# Altium schematic symbol library Battery Protection.SchLib: 1 symbol
Pins are listed as number, name and electrical type; pins without a type are passive.

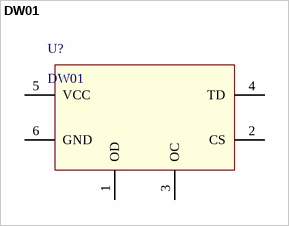
[diagram p0: symbol DW01]

## DW01
designator U?
Battery Protector
pins: 1 OD, 2 CS, 3 OC, 4 TD, 5 VCC, 6 GND